# Altium integrated library Battery Management.IntLib: 1 symbol
Pins are listed as number, name and electrical type; pins without a type are passive.

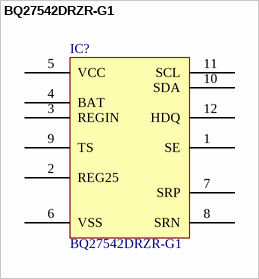
[diagram p0: symbol BQ27542DRZR-G1]

## BQ27542DRZR-G1
designator IC?
IC BATT FUEL GAUGE LI-ION 12SON; Manufacturer: Texas Instruments; Battery Chemistry: Lithium-Ion; Function: Battery Monitor; Interface: HDQ, I²C; Number of Cells: 1; Part Number: BQ27542DRZR-G1; ComponentLink1Description: Datasheet; ComponentLink1URL: http://www.ti.com/general/docs/suppproductinfo.tsp?distId=10&gotoUrl=http%3A%2F%2Fwww.ti.com%2Flit%2Fgpn%2Fbq27542-g1; ComponentLink2Description: DigiKey Link; ComponentLink2URL: http://digikey.com/product-detail/en/texas-instruments/BQ27542DRZR-G1/296-44346-1-ND/6110619; Device Package: 12-VFDFN Exposed Pad; LastUpdated: 3/30/2020 4:23:27 PM; Lifecycle Status: Active; Minimum Order: 1; Mounting Type: Surface Mount; Operating Temperature: -40°C ~ 85°C (TA); Package / Case: 12-VFDFN Exposed Pad; Packaging: TapeAndReel; Part Status: Active; Price: 1.28; Series: Impedance Track™; Supplier 1: DigiKey; Supplier Part Number 1: 296-44346-1-ND; Supplier Device Package: 12-SON (2.5x4)
footprint TI SON-12 DRZ
pins: 1 SE, 2 REG25, 3 REGIN, 4 BAT, 5 VCC, 6 VSS, 7 SRP, 8 SRN, 9 TS, 10 SDA, 11 SCL, 12 HDQ